# Altium footprint library LED.PcbLib: 34 footprints (part 1 of 3)
Each footprint in its own frame and in the unit in brackets; x right, y up, seen from the top. Pads: shape width x height; smd on the part's side, far side on the other; paste and mask are expansions set on the pad; w line width, h text height; cw(c..) or ccw(c..) is an arc to the next point about the centre after c.
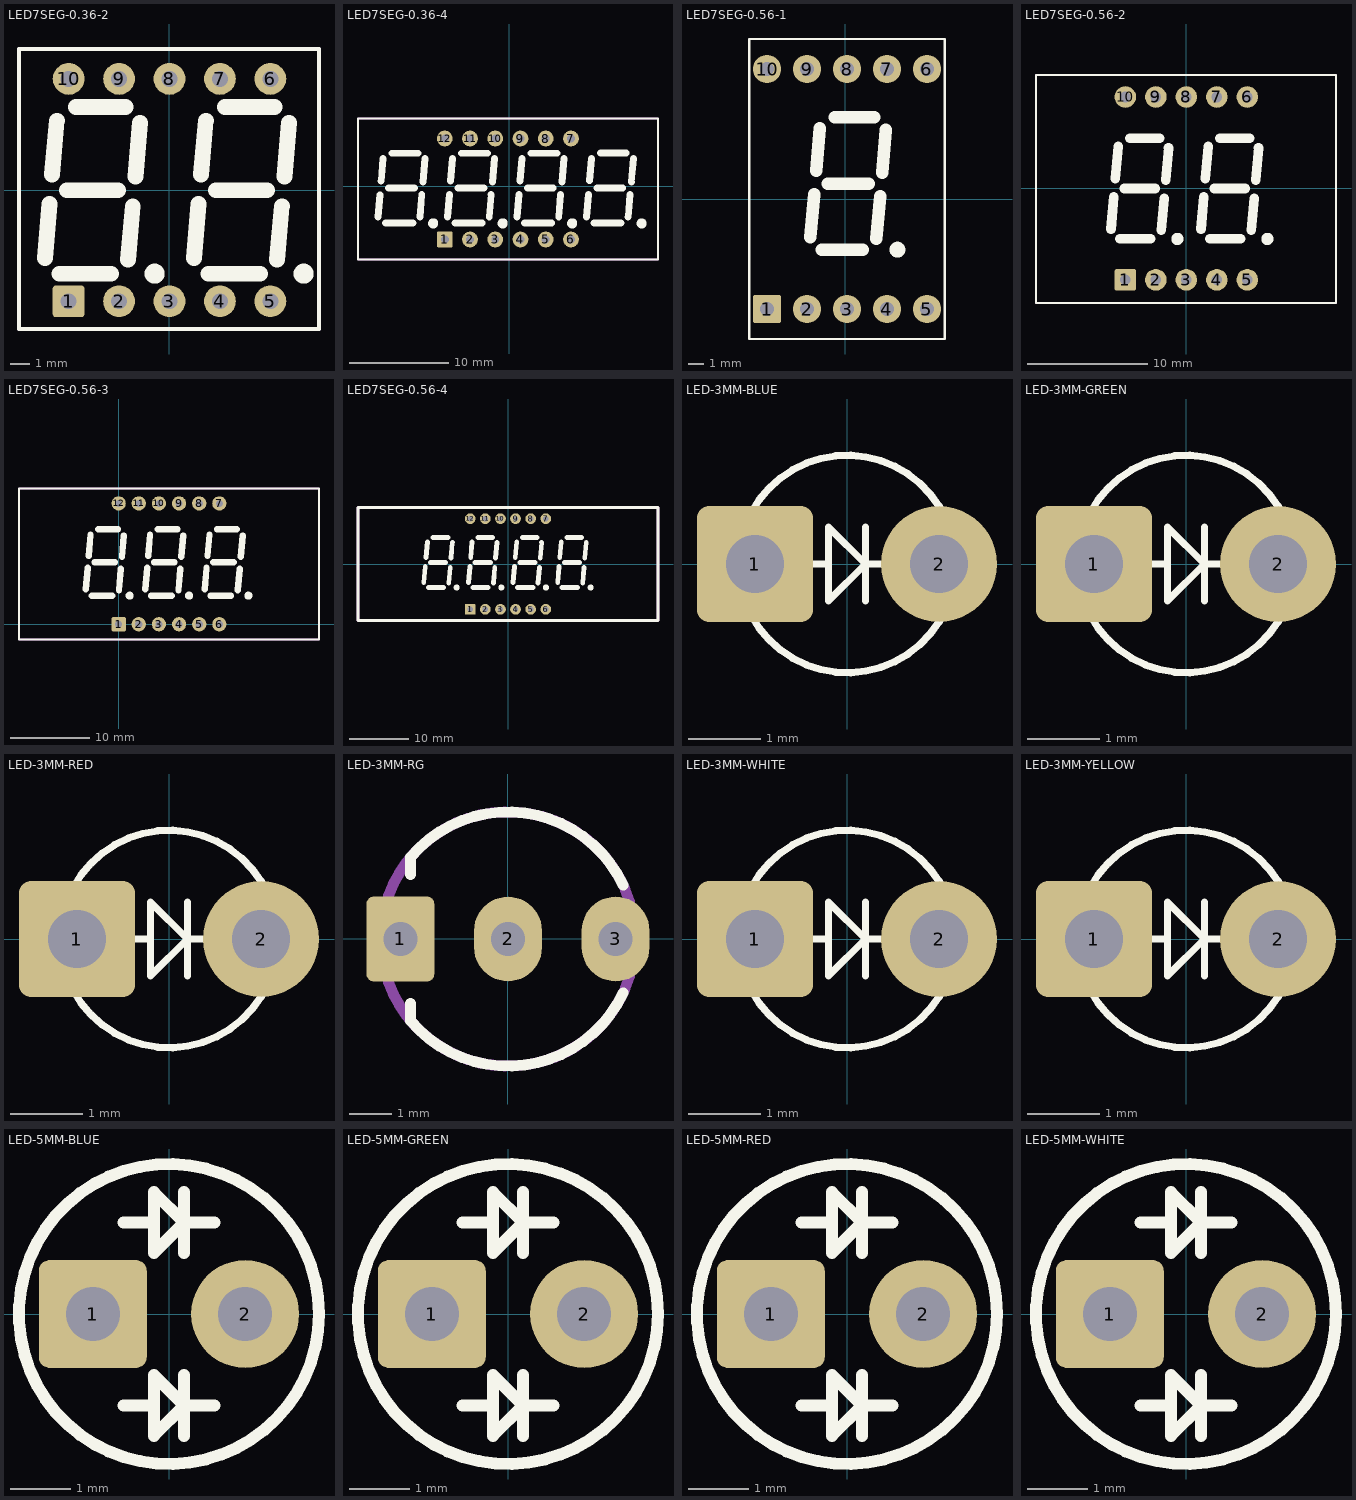
[diagram p0: the footprints below, top view; thin cyan lines are the x and y axes]

## LED7SEG-0.36-2 [mm] "LED, 7-Segment Display, 9.2 mm, Dual Digit; 10 Leads; Row Space 10.7 mm; Pitch 2.54 mm"
height 7.35
pads (10):
  rrect20% 1.6x1.6 hole 0.8: 1(-5.08,-5.596)
  round 1.6 hole 0.8: 2(-2.54,-5.596) 3(0,-5.596) 4(2.54,-5.596) 5(5.08,-5.596) 6(5.08,5.596) 7(2.54,5.596) 8(0,5.596) 9(-2.54,5.596) 10(-5.08,5.596)
Top Overlay:
  circle w0.75: c6.753,-4.208 r0.13
  circle w0.75: c-0.747,-4.208 r0.13
  lines w0.2: -7.575,-6.993 -7.575,-0.314 -7.575,7.104 7.525,7.104 7.525,-6.993 -7.575,-6.993
  lines w0.8: -6.275,-3.41 -6.038,-0.703 ; -5.909,0.794 -5.671,3.488 ; -5.541,-4.208 -2.949,-4.208 ; -5.172,-0.008 -2.582,-0.008 ; -4.714,4.192 -2.213,4.192 ; -2.084,-3.504 -1.847,-0.81 ; -1.715,0.694 -1.48,3.391 ; 1.225,-3.41 1.462,-0.703 ; 1.591,0.794 1.829,3.488 ; 1.959,-4.208 4.551,-4.208 ; 2.328,-0.008 4.918,-0.008 ; 2.786,4.192 5.287,4.192 ; 5.416,-3.504 5.653,-0.81 ; 5.785,0.694 6.02,3.391
Mechanical 13:
  lines w0.2: -7.575,-6.993 -7.575,-0.314 -7.575,7.104 7.525,7.104 7.525,-6.993 -7.575,-6.993
3D body "7 Segment Double Digit LED Display.STEP": height 7.02, standoff -4, extent -7.525,-6.985 7.475,7.025

## LED7SEG-0.36-4 [mm]
height 7.62
pads (12):
  rrect20% 1.6x1.6 hole 0.8: 1(-6.477,-5.334)
  round 1.6 hole 0.8: 2(-3.937,-5.334) 3(-1.397,-5.334) 4(1.143,-5.334) 5(3.683,-5.334) 6(6.223,-5.334) 7(6.223,4.826) 8(3.683,4.826) 9(1.143,4.826) 10(-1.397,4.826) 11(-3.937,4.826) 12(-6.477,4.826)
Top Overlay:
  circle w0.75: c-7.642,-3.719 r0.13
  circle w0.75: c-0.648,-3.717 r0.13
  circle w0.75: c6.346,-3.715 r0.13
  circle w0.75: c13.34,-3.713 r0.13
  lines w0.2: -15.215,-7.366 -15.215,6.858 14.986,6.858 14.986,-7.366 -15.215,-7.366
  lines w0.7: -13.196,-3.082 -12.999,-0.831 ; -12.876,0.57 -12.68,2.822 ; -12.444,-3.693 -9.699,-3.693 ; -12.135,-0.158 -9.545,-0.158 ; -11.784,3.343 -9.191,3.343 ; -8.995,-3.06 -8.798,-0.809 ; -8.686,0.463 -8.479,2.829 ; -6.202,-3.081 -6.005,-0.829 ; -5.882,0.572 -5.686,2.823 ; -5.45,-3.691 -2.705,-3.691 ; -5.141,-0.156 -2.551,-0.156 ; -4.79,3.344 -2.197,3.344 ; -2,-3.059 -1.804,-0.807 ; -1.692,0.464 -1.485,2.831 ; 0.792,-3.079 0.989,-0.828 ; 1.112,0.574 1.309,2.825 ; 1.544,-3.69 4.289,-3.69 ; 1.853,-0.154 4.443,-0.154 ; 2.204,3.346 4.797,3.346 ; 4.994,-3.057 5.19,-0.806 ; 5.302,0.466 5.509,2.833 ; 7.786,-3.077 7.983,-0.826 ; 8.106,0.576 8.303,2.827 ; 8.538,-3.688 11.283,-3.688 ; 8.847,-0.153 11.437,-0.153 ; 9.198,3.348 11.791,3.348 ; 11.988,-3.055 12.184,-0.804 ; 12.296,0.468 12.503,2.835
Mechanical 13:
  lines w0.2: -15.215,-7.366 -15.215,6.858 14.986,6.858 14.986,-7.366 -15.215,-7.366
3D body "4Digit_7Segment_LED_Display v8.step": height 7.3, standoff -6.3, extent -15.119,-7.239 14.881,6.761

## LED7SEG-0.56-1 [mm]
pads (10):
  rrect20% 1.8x1.8 hole 0.9: 1(-4.953,-6.985)
  round 1.8 hole 0.9: 2(-2.413,-6.985) 3(0.127,-6.985) 4(2.667,-6.985) 5(5.207,-6.985) 6(5.207,8.255) 7(2.667,8.255) 8(0.127,8.255) 9(-2.413,8.255) 10(-4.953,8.255)
Top Overlay:
  circle w0.75: c3.327,-3.219 r0.13
  lines w0.152: -6.071,-8.89 -6.071,10.16 6.325,10.16 6.325,-8.89 -6.071,-8.89
  lines w0.8: -2.201,-2.421 -1.964,0.286 ; -1.835,1.782 -1.598,4.477 ; -1.468,-3.219 1.125,-3.219 ; -1.098,0.981 1.492,0.981 ; -0.641,5.181 1.86,5.181 ; 1.99,-2.515 2.226,0.178 ; 2.359,1.683 2.594,4.38
3D body "27763.stp": height 8, standoff -3.5, extent -6.123,-8.865 6.377,10.135

## LED7SEG-0.56-2 [mm]
height 7.35
pads (10):
  rrect20% 1.8x1.8 hole 0.9: 1(-5.08,-7.62)
  round 1.8 hole 0.9: 2(-2.54,-7.62) 3(0,-7.62) 4(2.54,-7.62) 5(5.08,-7.62) 6(5.08,7.62) 7(2.54,7.62) 8(0,7.62) 9(-2.54,7.62) 10(-5.08,7.62)
Top Overlay:
  circle w0.75: c-0.747,-4.208 r0.13
  circle w0.75: c6.753,-4.208 r0.13
  lines w0.2: -12.525,-9.55 -12.525,9.45 12.475,9.45 12.475,-9.55 -12.525,-9.55
  lines w0.8: -6.275,-3.41 -6.038,-0.703 ; -5.909,0.794 -5.671,3.488 ; -5.541,-4.208 -2.949,-4.208 ; -5.172,-0.008 -2.582,-0.008 ; -4.714,4.192 -2.213,4.192 ; -2.084,-3.504 -1.847,-0.81 ; -1.715,0.694 -1.48,3.391 ; 1.225,-3.41 1.462,-0.703 ; 1.591,0.794 1.829,3.488 ; 1.959,-4.208 4.551,-4.208 ; 2.328,-0.008 4.918,-0.008 ; 2.786,4.192 5.287,4.192 ; 5.416,-3.504 5.653,-0.81 ; 5.785,0.694 6.02,3.391
Mechanical 13:
  lines w0.2: -12.525,-9.55 12.475,-9.55 12.475,9.45 -12.525,9.45 -12.525,-5.264 -12.525,-9.55
3D body: height 8, standoff 0, extent -12.525,-9.55 12.475,9.45

## LED7SEG-0.56-3 [mm]
height 7.35
pads (12):
  rrect20% 1.8x1.8 hole 0.9: 1(0,0)
  round 1.8 hole 0.9: 2(2.54,0) 3(5.08,0) 4(7.62,0) 5(10.16,0) 6(12.7,0) 7(12.7,15.24) 8(10.16,15.24) 9(7.62,15.24) 10(5.08,15.24)
  round 1.8 hole 0.9 mask+0.102: 11(2.54,15.24) 12(0,15.24)
Top Overlay:
  circle w0.75: c16.374,3.596 r0.13
  circle w0.75: c1.381,3.596 r0.13
  circle w0.75: c8.881,3.596 r0.13
  lines w0.2: -12.573,-1.93 -12.573,17.12 25.273,17.12 25.273,-1.93 -12.573,-1.93
  lines w0.8: -4.146,4.395 -3.909,7.102 ; -3.781,8.598 -3.543,11.293 ; -3.413,3.596 -0.82,3.596 ; -3.044,7.796 -0.454,7.796 ; -2.586,11.996 -0.085,11.996 ; 0.045,4.3 0.281,6.994 ; 0.413,8.499 0.649,11.195 ; 3.354,4.395 3.591,7.102 ; 3.719,8.598 3.957,11.293 ; 4.087,3.596 6.68,3.596 ; 4.456,7.796 7.046,7.796 ; 4.914,11.996 7.415,11.996 ; 7.545,4.3 7.781,6.994 ; 7.913,8.499 8.149,11.195 ; 10.847,4.395 11.084,7.102 ; 11.212,8.598 11.45,11.293 ; 11.58,3.596 14.173,3.596 ; 11.949,7.796 14.539,7.796 ; 12.407,11.996 14.908,11.996 ; 15.038,4.3 15.274,6.994 ; 15.406,8.499 15.642,11.195
Mechanical 13:
  lines w0.2: -12.573,-1.93 -12.573,17.12 25.273,17.12 25.273,-1.93 -12.573,-1.93
3D body "E30561-L-O-0-W.step": height 8.1, standoff -6.3, extent -12.475,-1.88 25.125,17.12

## LED7SEG-0.56-4 [mm]
height 7.62
pads (12):
  rrect20% 1.8x1.8 hole 0.9: 1(-6.35,-7.62)
  round 1.8 hole 0.9: 2(-3.81,-7.62) 3(-1.27,-7.62) 4(1.27,-7.62) 5(3.81,-7.62) 6(6.35,-7.62) 7(6.35,7.62) 8(3.81,7.62) 9(1.27,7.62) 10(-1.27,7.62) 11(-3.81,7.62) 12(-6.35,7.62)
Top Overlay:
  circle w0.75: c13.874,-3.946 r0.13
  circle w0.75: c6.381,-3.946 r0.13
  circle w0.75: c-8.612,-3.946 r0.13
  circle w0.75: c-1.112,-3.946 r0.13
  lines w0.5: -25.197,-9.5 25.197,-9.5 25.197,9.5 -25.197,9.5 -25.197,-9.5
  lines w0.8: -14.139,-3.148 -13.902,-0.441 ; -13.774,1.055 -13.536,3.75 ; -13.406,-3.946 -10.813,-3.946 ; -13.037,0.254 -10.447,0.254 ; -12.579,4.454 -10.078,4.454 ; -9.948,-3.242 -9.712,-0.548 ; -9.58,0.956 -9.344,3.653 ; -6.639,-3.148 -6.402,-0.441 ; -6.274,1.055 -6.036,3.75 ; -5.906,-3.946 -3.313,-3.946 ; -5.537,0.254 -2.947,0.254 ; -5.079,4.454 -2.578,4.454 ; -2.448,-3.242 -2.212,-0.548 ; -2.08,0.956 -1.844,3.653 ; 0.854,-3.148 1.091,-0.441 ; 1.219,1.055 1.457,3.75 ; 1.587,-3.946 4.18,-3.946 ; 1.956,0.254 4.546,0.254 ; 2.414,4.454 4.915,4.454 ; 5.045,-3.242 5.281,-0.548 ; 5.413,0.956 5.649,3.653 ; 8.347,-3.148 8.584,-0.441 ; 8.712,1.055 8.95,3.75 ; 9.08,-3.946 11.673,-3.946 ; 9.449,0.254 12.039,0.254 ; 9.907,4.454 12.408,4.454 ; 12.538,-3.242 12.774,-0.548 ; 12.906,0.956 13.142,3.653
Mechanical 13:
  lines w0.5: -25.197,-9.5 -25.197,9.5 25.197,9.5 25.197,-9.5 -25.197,-9.5
Mechanical 15:
  lines w0.5: -25.197,-9.5 -25.197,9.5 25.197,9.5 25.197,-9.5 -25.197,-9.5
3D body "User Library-C-564 (7 segment 4 digit LED display).step": height 8, standoff -6.2, extent -25.2,-9.5 25.2,9.5

## LED-3MM-BLUE [mm]
pads (2):
  rrect20% 1.6x1.6 hole 0.8: 1(-1.27,0)
  round 1.6 hole 0.8: 2(1.27,0)
Top Overlay:
  circle w0.102: c0,0 r1.5
  lines w0.1: -0.456,0 -0.254,0 ; 0.254,-0.508 0.254,0.508 ; 0.456,0 0.254,0 ; 0.254,0 -0.254,-0.508 -0.254,0.508 0.254,0
3D body "LED D3 - Blue_cutted.step": height 6.3, standoff -4.1, extent -1.95,-1.947 1.62,1.947

## LED-3MM-GREEN [mm]
pads (2):
  rrect20% 1.6x1.6 hole 0.8: 1(-1.27,0)
  round 1.6 hole 0.8: 2(1.27,0)
Top Overlay:
  circle w0.102: c0,0 r1.5
  lines w0.1: -0.456,0 -0.254,0 ; 0.254,-0.508 0.254,0.508 ; 0.456,0 0.254,0 ; 0.254,0 -0.254,0.508 -0.254,-0.508 0.254,0
3D body "LED D3 - Green_cutted.step": height 6.3, standoff -4.1, extent -1.95,-1.947 1.62,1.947

## LED-3MM-RED [mm]
pads (2):
  rrect20% 1.6x1.6 hole 0.8: 1(-1.27,0)
  round 1.6 hole 0.8: 2(1.27,0)
Top Overlay:
  circle w0.102: c0,0 r1.5
  lines w0.1: -0.456,0 -0.254,0 ; 0.254,-0.508 0.254,0.508 ; 0.456,0 0.254,0 ; 0.254,0 -0.254,0.508 -0.254,-0.508 0.254,0
3D body "LED D3 - Red_cutted.step": height 6.3, standoff -4.1, extent -1.95,-1.947 1.62,1.947

## LED-3MM-RG [mm]
pads (3):
  rrect20% 1.6x2 hole 0.8: 1(-2.54,0)
  oval 1.6x2 hole 0.8: 2(0,0) 3(2.54,0)
Top Overlay:
  lines w0.254: -2.298,-1.524 -2.298,-1.929 ccw(c0,0) 2.719,-1.268 ; -2.298,1.524 -2.298,1.928 cw(c0,0) 2.719,1.268
Mechanical 13:
  circle w0.254: c0,0 r3
3D body "everlight-3MM-LED-RG.step": height 6.77, standoff -2.9, extent -2.74,-1.9 2.74,1.9

## LED-3MM-WHITE [mm]
pads (2):
  rrect20% 1.6x1.6 hole 0.8: 1(-1.27,0)
  round 1.6 hole 0.8: 2(1.27,0)
Top Overlay:
  circle w0.102: c0,0 r1.5
  lines w0.1: -0.456,0 -0.254,0 ; 0.254,-0.508 0.254,0.508 ; 0.456,0 0.254,0 ; 0.254,0 -0.254,0.508 -0.254,-0.508 0.254,0
3D body "LED D3 - White_cutted.step": height 6.3, standoff -4.1, extent -1.95,-1.947 1.62,1.947

## LED-3MM-YELLOW [mm]
pads (2):
  rrect20% 1.6x1.6 hole 0.8: 1(-1.27,0)
  round 1.6 hole 0.8: 2(1.27,0)
Top Overlay:
  circle w0.102: c0,0 r1.5
  lines w0.1: -0.456,0 -0.254,0 ; 0.254,-0.508 0.254,0.508 ; 0.456,0 0.254,0 ; 0.254,0 -0.254,-0.508 -0.254,0.508 0.254,0
3D body "LED D3 - Yellow_cutted.step": height 6.3, standoff -4.1, extent -1.95,-1.947 1.62,1.947

## LED-5MM-BLUE [mm]
pads (2):
  rrect20% 1.8x1.8 hole 0.9: 1(-1.27,0)
  round 1.8 hole 0.9: 2(1.27,0)
Top Overlay:
  circle w0.2: c0,0 r2.5
  lines w0.2: -0.762,-1.524 -0.254,-1.524 ; -0.762,1.524 -0.254,1.524 ; 0.254,-2.032 0.254,-1.016 ; 0.254,1.016 0.254,2.032 ; 0.762,-1.524 0.254,-1.524 ; 0.762,1.524 0.254,1.524 ; 0.254,-1.524 -0.254,-2.032 -0.254,-1.016 0.254,-1.524 ; 0.254,1.524 -0.254,1.016 -0.254,2.032 0.254,1.524
3D body "LED D5 - Blue_cutted.step": height 9.6, standoff -4.1, extent -2.95,-2.95 2.5,2.95

## LED-5MM-GREEN [mm]
pads (2):
  rrect20% 1.8x1.8 hole 0.9: 1(-1.27,0)
  round 1.8 hole 0.9: 2(1.27,0)
Top Overlay:
  circle w0.2: c0,0 r2.5
  lines w0.2: -0.762,-1.524 -0.254,-1.524 ; -0.762,1.524 -0.254,1.524 ; 0.254,-2.032 0.254,-1.016 ; 0.254,1.016 0.254,2.032 ; 0.762,-1.524 0.254,-1.524 ; 0.762,1.524 0.254,1.524 ; 0.254,-1.524 -0.254,-1.016 -0.254,-2.032 0.254,-1.524 ; 0.254,1.524 -0.254,2.032 -0.254,1.016 0.254,1.524
3D body "LED D5 - Green_cutted.step": height 9.6, standoff -4.1, extent -2.95,-2.95 2.5,2.95

## LED-5MM-RED [mm]
pads (2):
  rrect20% 1.8x1.8 hole 0.9: 1(-1.27,0)
  round 1.8 hole 0.9: 2(1.27,0)
Top Overlay:
  circle w0.2: c0,0 r2.5
  lines w0.2: -0.762,-1.524 -0.254,-1.524 ; -0.762,1.524 -0.254,1.524 ; 0.254,-2.032 0.254,-1.016 ; 0.254,1.016 0.254,2.032 ; 0.762,-1.524 0.254,-1.524 ; 0.762,1.524 0.254,1.524 ; 0.254,-1.524 -0.254,-2.032 -0.254,-1.016 0.254,-1.524 ; 0.254,1.524 -0.254,1.016 -0.254,2.032 0.254,1.524
3D body "LED D5 - Red_cutted.step": height 9.6, standoff -4.1, extent -2.95,-2.95 2.5,2.95

## LED-5MM-WHITE [mm]
pads (2):
  rrect20% 1.8x1.8 hole 0.9: 1(-1.27,0)
  round 1.8 hole 0.9: 2(1.27,0)
Top Overlay:
  circle w0.2: c0,0 r2.5
  lines w0.2: -0.762,-1.524 -0.254,-1.524 ; -0.762,1.524 -0.254,1.524 ; 0.254,-2.032 0.254,-1.016 ; 0.254,1.016 0.254,2.032 ; 0.762,-1.524 0.254,-1.524 ; 0.762,1.524 0.254,1.524 ; 0.254,-1.524 -0.254,-1.016 -0.254,-2.032 0.254,-1.524 ; 0.254,1.524 -0.254,2.032 -0.254,1.016 0.254,1.524
3D body "LED D5 - White_cutted.step": height 9.6, standoff -4.1, extent -2.95,-2.95 2.5,2.95